# Altium integrated library PDB_V1.IntLib: 41 symbols
Pins are listed as number, name and electrical type; pins without a type are passive.

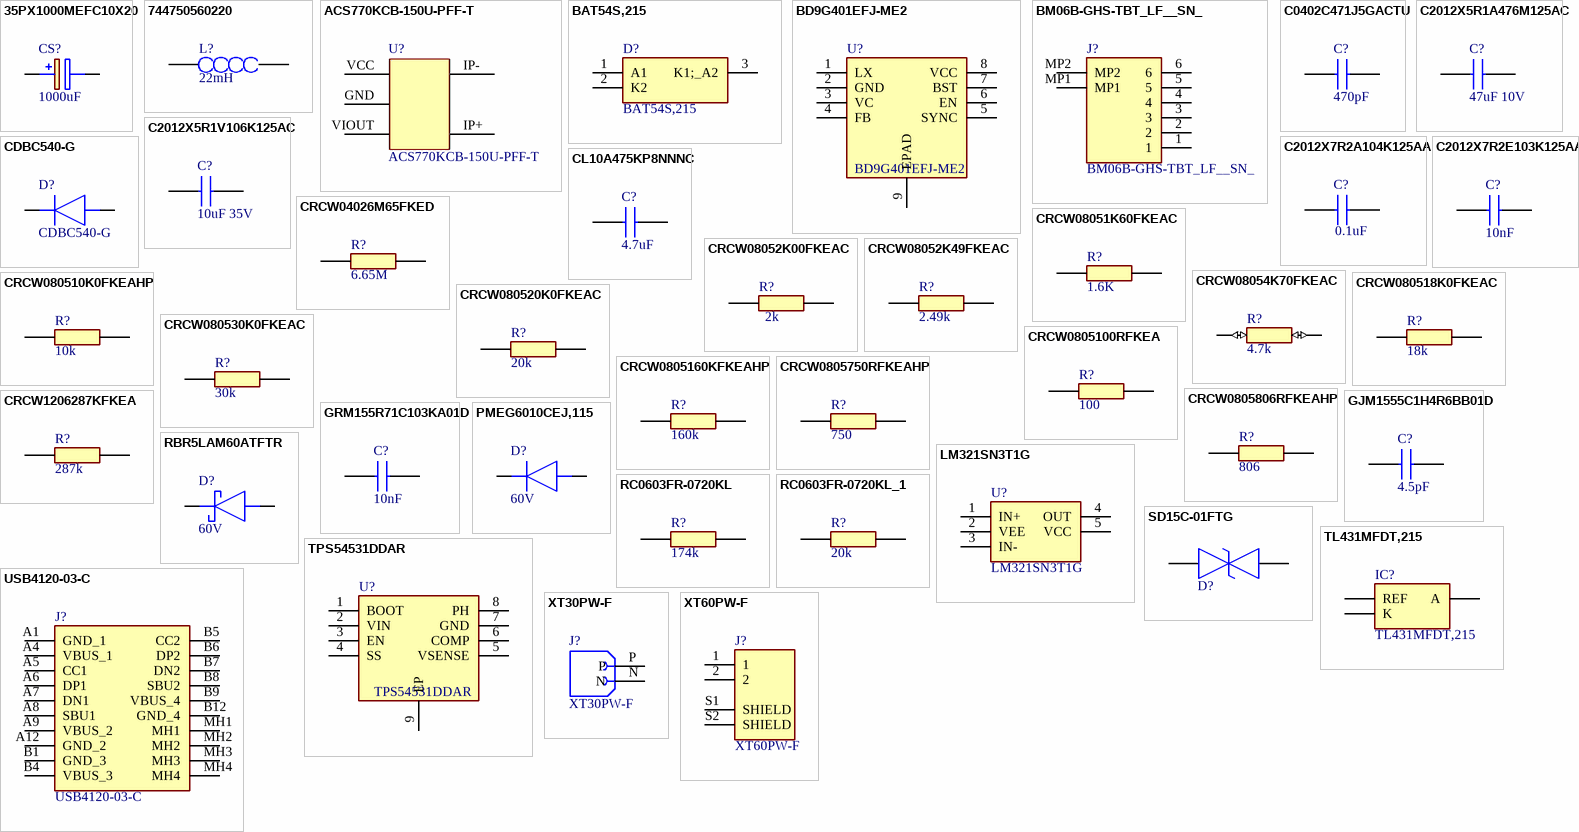
[diagram p0: symbols 35PX1000MEFC10X20 to XT60PW-F]

## 35PX1000MEFC10X20
designator CS?, comment 1000uF
Capacitor Polarised; Manufacturer_Name: Rubycon; Manufacturer_Part_Number: 35PX1000MEFC10X20; Datasheet Link: https://www.rubycon.co.jp/wp-content/uploads/catalog-aluminum/PX.pdf; Height: 21.5mm; Mouser Part Number: 232-35PX1000MEFC10X2; Mouser Price/Stock: https://www.mouser.co.uk/ProductDetail/Rubycon/35PX1000MEFC10X20?qs=T3oQrply3y86%2F1qnNfO%252BAA%3D%3D; Arrow Part Number: 35PX1000MEFC10X20; Arrow Price/Stock: https://www.arrow.com/en/products/35px1000mefc10x20/rubycon?region=nac
footprint CAPPRD500W60D1025H2150
pins: 1 +, 2 -

## 744750560220
designator L?, comment 22mH
Inductor 22mH; Manufacturer_Name: Wurth Elektronik; Manufacturer_Part_Number: 744750560220; Datasheet Link: https://componentsearchengine.com/Datasheets/2/744750560220.pdf; Height: 15.8mm; Mouser Part Number: 710-744750560220; Mouser Price/Stock: https://www.mouser.co.uk/ProductDetail/Wurth-Elektronik/744750560220?qs=HXx4m3XcTe10itAwD7FiZQ%3D%3D; ClassName: PowerModul
footprint 744750560220
pins: 1, 2

## ACS770KCB-150U-PFF-T
designator U?
Integrated Circuit; Manufacturer_Name: Allegro Microsystems; Datasheet Link: https://www.allegromicro.com/-/media/files/datasheets/acs770-datasheet.ashx; Height: 7.1mm; Manufacturer_Part_Number: ACS770KCB-150U-PFF-T; Mouser Part Number: 250-770KCB150UPFFT; Mouser Price/Stock: https://www.mouser.co.uk/ProductDetail/Allegro-MicroSystems/ACS770KCB-150U-PFF-T?qs=pUKx8fyJudAqqwIwIjrr8g%3D%3D; Arrow Part Number: ACS770KCB-150U-PFF-T; Arrow Price/Stock: https://www.arrow.com/en/products/acs770kcb-150u-pff-t/allegro-microsystems?region=nac
footprint ACS772ECB200BPFFT (Footprint not found)
footprint ACS772ECB200BPFFT
pins: GND, IP+, IP-, VCC, VIOUT

## BAT54S,215
designator D?
Schottky Diode; Manufacturer_Name: Nexperia; Datasheet Link: https://assets.nexperia.com/documents/data-sheet/BAT54S.pdf; Height: 1.1mm; Manufacturer_Part_Number: BAT54S,215; Mouser Part Number: 771-BAT54S-T/R; Mouser Price/Stock: https://www.mouser.co.uk/ProductDetail/Nexperia/BAT54S215?qs=me8TqzrmIYVOaf3j7zH0Wg%3D%3D; Arrow Part Number: BAT54S,215; Arrow Price/Stock: https://www.arrow.com/en/products/bat54s215/nexperia?utm_currency=USD&region=europe
footprint SOT95P230X110-3N
pins: 1 A1, 2 K2, 3 K1;_A2

## BD9G401EFJ-ME2
designator U?
Buck converter; Manufacturer_Name: ROHM Semiconductor; Datasheet Link: https://componentsearchengine.com/Datasheets/1/BD9G401EFJ-ME2.pdf; Height: 1mm; Manufacturer_Part_Number: BD9G401EFJ-ME2; Mouser Part Number: 755-BD9G401EFJ-ME2; Mouser Price/Stock: https://www.mouser.co.uk/ProductDetail/ROHM-Semiconductor/BD9G401EFJ-ME2?qs=HXFqYaX1Q2yXryPBxafgDg%3D%3D; ClassName: PowerModul
footprint SOIC127P600X100-9N
pins: 1 LX, 2 GND, 3 VC, 4 FB, 5 SYNC, 6 EN, 7 BST, 8 VCC, 9 EPAD

## BM06B-GHS-TBT_LF__SN_
designator J?
Connector; Manufacturer_Name: JST (JAPAN SOLDERLESS TERMINALS); Manufacturer_Part_Number: BM06B-GHS-TBT(LF)(SN); Datasheet Link: https://datasheet.lcsc.com/szlcsc/2004111131_JST-Sales-America-BM06B-GHS-TBT-LF-SN_C495534.pdf; Height: 4.05mm; Mouser Part Number: 306-BM06BGHSTBTLFSNN; Mouser Price/Stock: https://www.mouser.co.uk/ProductDetail/JST-Commercial/BM06B-GHS-TBTLFSN?qs=cdbOS8ANM9CObKjnhD04mw%3D%3D
footprint BM06BGHSTBTLFSN
pins: 1, 2, 3, 4, 5, 6, MP1, MP2

## C0402C471J5GACTU
designator C?, comment 470pF
Capacitor; Manufacturer_Name: KEMET; Manufacturer_Part_Number: C0402C471J5GACTU; Datasheet Link: https://content.kemet.com/datasheets/KEM_C1002_X7R_SMD.pdf; Height: 0.55mm; Mouser Part Number: 80-C0402C471J5G; Mouser Price/Stock: https://www.mouser.com/Search/Refine.aspx?Keyword=80-C0402C471J5G; Arrow Part Number: C0402C471J5GACTU; Arrow Price/Stock: https://www.arrow.com/en/products/c0402c471j5gactu/kemet-corporation
footprint C0402C104J4RACTU
pins: 1, 2

## C2012X5R1A476M125AC
designator C?, comment 47uF 10V
Capacitor; Manufacturer_Name: TDK; Manufacturer_Part_Number: C2012X5R1A476M125AC; Datasheet Link: https://product.tdk.com/info/en/catalog/datasheets/mlcc_commercial_midvoltage_en.pdf; Height: 1.45mm; Mouser Part Number: 810-C2012X5R1A476M; Mouser Price/Stock: https://www.mouser.co.uk/ProductDetail/TDK/C2012X5R1A476M125AC?qs=LcTL%2F5vFEzGyFw5hxP%2FMXw%3D%3D; Arrow Part Number: C2012X5R1A476M125AC; Arrow Price/Stock: https://www.arrow.com/en/products/c2012x5r1a476m125ac/tdk?region=nac; ClassName: PowerModul
footprint CAPC2012X145N
footprint CAPC2012X145N
pins: 1, 2

## C2012X5R1V106K125AC
designator C?, comment 10uF 35V
Capacitor; Manufacturer_Name: TDK; Manufacturer_Part_Number: C2012X5R1V106K125AC; Datasheet Link: https://product.tdk.com/info/en/catalog/datasheets/mlcc_commercial_midvoltage_en.pdf; Height: 1.45mm; Mouser Part Number: 810-C2012X5R1V106K1C; Mouser Price/Stock: https://www.mouser.co.uk/ProductDetail/TDK/C2012X5R1V106K125AC?qs=6JAMGB%252BEdkwcwonKbQLeCg%3D%3D; Arrow Part Number: C2012X5R1V106K125AC; Arrow Price/Stock: https://www.arrow.com/en/products/c2012x5r1v106k125ac/tdk?region=europe; ClassName: PowerModul
footprint CAPC2012X145N
pins: 1, 2

## C2012X7R2A104K125AA
designator C?, comment 0.1uF
Capacitor; Manufacturer_Name: TDK; Manufacturer_Part_Number: C2012X7R2A104K125AA; Datasheet Link: https://product.tdk.com/info/en/catalog/datasheets/mlcc_commercial_midvoltage_en.pdf; Height: 1.45mm; Mouser Part Number: 810-C2012X7R2A104K; Mouser Price/Stock: https://www.mouser.co.uk/ProductDetail/TDK/C2012X7R2A104K125AA?qs=NRhsANhppD9J0ZsT2%2Fo%2F7Q%3D%3D; Arrow Part Number: C2012X7R2A104K125AA; Arrow Price/Stock: https://www.arrow.com/en/products/c2012x7r2a104k125aa/tdk?region=europe; ClassName: PowerModul
footprint CAPC2012X145N
pins: 1, 2

## C2012X7R2E103K125AA
designator C?, comment 10nF
Capacitor; Manufacturer_Name: TDK; Manufacturer_Part_Number: C2012X7R2E103K125AA; Datasheet Link: https://product.tdk.com/info/en/catalog/datasheets/mlcc_commercial_midvoltage_en.pdf; Height: 1.45mm; Mouser Part Number: 810-C2012X7R2E103K; Mouser Price/Stock: https://www.mouser.co.uk/ProductDetail/TDK/C2012X7R2E103K125AA?qs=NRhsANhppD%2FvPjIeAxskbg%3D%3D; Arrow Part Number: C2012X7R2E103K125AA; Arrow Price/Stock: https://www.arrow.com/en/products/c2012x7r2e103k125aa/tdk?region=nac; ClassName: PowerModul
footprint CAPC2012X145N
pins: 1, 2

## CDBC540-G
designator D?
Diode; Manufacturer_Name: Comchip Technology; Datasheet Link: https://eu.mouser.com/datasheet/2/80/CDBC520-HF_Thru195340._CDBC5100-HF_RevB-1480991.pdf; Height: 2.9mm; Manufacturer_Part_Number: CDBC540-G; Mouser Part Number: 750-CDBC540-G; Mouser Price/Stock: https://www.mouser.co.uk/ProductDetail/Comchip-Technology/CDBC540-G?qs=tw%252BuQ%2FB6PO2ExpPYY64Vzw%3D%3D; Arrow Part Number: CDBC540-G; Arrow Price/Stock: https://www.arrow.com/en/products/cdbc540-g/comchip-technology?utm_currency=USD&region=nac
footprint DIOM8059X290N
pins: 1 K, 2 A

## CL10A475KP8NNNC
designator C?, comment 4.7uF
Capacitor; Manufacturer_Name: SAMSUNG; Manufacturer_Part_Number: CL10A475KP8NNNC; Datasheet Link: https://www.arrow.com/en/products/cl10a475kp8nnnc/samsung-electro-mechanics; Height: 0.9mm; Mouser Part Number: 187-CL10A475KP8NNNC; Mouser Price/Stock: https://www.mouser.co.uk/ProductDetail/Samsung-Electro-Mechanics/CL10A475KP8NNNC?qs=hqM3L16%252BxlfQRmkWsZz5vA%3D%3D; Arrow Part Number: CL10A475KP8NNNC; Arrow Price/Stock: https://www.arrow.com/en/products/cl10a475kp8nnnc/samsung-electro-mechanics?region=nac
footprint CAPC1608X90N
pins: 1, 2

## CRCW04026M65FKED
designator R?, comment 6.65M
Resistor; Manufacturer_Name: Vishay; Manufacturer_Part_Number: CRCW04026M65FKED; Datasheet Link: http://www.vishay.com/docs/20035/dcrcwe3.pdf; Height: 0.4mm
footprint RESC1005X40N
pins: 1, 2

## CRCW08051K60FKEAC
designator R?, comment 1.6K
Resistor; Manufacturer_Name: Vishay; Manufacturer_Part_Number: CRCW08051K60FKEAC; Datasheet Link: https://www.arrow.com/en/products/crcw08051k60fkeac/vishay; Height: 0.6mm; Mouser Part Number: 71-CRCW08051K60FKEAC; Mouser Price/Stock: https://www.mouser.co.uk/ProductDetail/Vishay-Dale/CRCW08051K60FKEAC?qs=E3Y5ESvWgWMJaZYHQus8LQ%3D%3D; Arrow Part Number: CRCW08051K60FKEAC; Arrow Price/Stock: https://www.arrow.com/en/products/crcw08051k60fkeac/vishay
footprint RESC2012X60N
pins: 1, 2

## CRCW08052K00FKEAC
designator R?, comment 2k
Resistor; Manufacturer_Name: Vishay; Manufacturer_Part_Number: CRCW08052K00FKEAC; Datasheet Link: http://www.vishay.com/docs/28773/crcwce3.pdf; Height: 0.6mm; Mouser Part Number: 71-CRCW08052K00FKEAC; Mouser Price/Stock: https://www.mouser.co.uk/ProductDetail/Vishay-Dale/CRCW08052K00FKEAC?qs=E3Y5ESvWgWP6floxGsbShA%3D%3D; Arrow Part Number: CRCW08052K00FKEAC; Arrow Price/Stock: https://www.arrow.com/en/products/crcw08052k00fkeac/vishay?utm_currency=USD&region=nac
footprint RESC2012X60N
pins: 1, 2

## CRCW08052K49FKEAC
designator R?, comment 2.49k
Resistor; Manufacturer_Name: Vishay; Manufacturer_Part_Number: CRCW08052K49FKEAC; Datasheet Link: https://componentsearchengine.com/Datasheets/1/CRCW08052K49FKEAC.pdf; Height: 0.5mm; Mouser Part Number: 71-CRCW08052K49FKEAC; Mouser Price/Stock: https://www.mouser.com/Search/Refine.aspx?Keyword=71-CRCW08052K49FKEAC; Arrow Part Number: CRCW08052K49FKEAC; Arrow Price/Stock: https://www.arrow.com/en/products/crcw08052k49fkeac/vishay
footprint RESC2012X50N
pins: 1, 2

## CRCW08054K70FKEAC
designator R?, comment 4.7k
Resistor; Manufacturer_Name: Vishay; Manufacturer_Part_Number: CRCW08054K70FKEAC; Datasheet Link: https://mouser.componentsearchengine.com/Datasheets/1/CRCW08054K70FKEAC.pdf; Height: 0.6mm; Mouser Part Number: 71-CRCW08054K70FKEAC; Mouser Price/Stock: https://www.mouser.co.uk/ProductDetail/Vishay-Dale/CRCW08054K70FKEAC?qs=E3Y5ESvWgWOQAAVugewEHA%3D%3D; Arrow Part Number: CRCW08054K70FKEAC; Arrow Price/Stock: https://www.arrow.com/en/products/crcw08054k70fkeac/vishay?region=nac; ClassName: PowerModul
footprint RESC2012X60N
pins: 1 (io), 2 (io)

## CRCW080510K0FKEAHP
designator R?, comment 10k
Resistor; Manufacturer_Name: Vishay; Manufacturer_Part_Number: CRCW080510K0FKEAHP; Datasheet Link: https://componentsearchengine.com/Datasheets/1/CRCW08051R00FKEAHP.pdf; Height: 0.6mm; Mouser Part Number: 71-CRCW080510K0FKEAH; Mouser Price/Stock: https://www.mouser.co.uk/ProductDetail/Vishay-Dale/CRCW080510K0FKEAHP?qs=FlFvgi4rxBybVOW6oiRQjA%3D%3D; Arrow Part Number: CRCW080510K0FKEAHP; Arrow Price/Stock: https://www.arrow.com/en/products/crcw080510k0fkeahp/vishay?utm_currency=USD&region=europe; ClassName: PowerModul
footprint RESC2012X60N
pins: 1, 2

## CRCW080518K0FKEAC
designator R?, comment 18k
Resistor; Manufacturer_Name: Vishay; Manufacturer_Part_Number: CRCW080518K0FKEAC; Datasheet Link: https://www.arrow.com/en/products/crcw080518k0fkeac/vishay?region=nac; Height: 0.5mm; Mouser Part Number: 71-CRCW080518K0FKEAC; Mouser Price/Stock: https://www.mouser.co.uk/ProductDetail/Vishay-Dale/CRCW080518K0FKEAC?qs=E3Y5ESvWgWPSwNx6fNHotQ%3D%3D; Arrow Part Number: CRCW080518K0FKEAC; Arrow Price/Stock: https://www.arrow.com/en/products/crcw080518k0fkeac/vishay?region=nac
footprint RESC2012X50N
pins: 1, 2

## CRCW080520K0FKEAC
designator R?, comment 20k
Resistor; Manufacturer_Name: Vishay; Manufacturer_Part_Number: CRCW080520K0FKEAC; Datasheet Link: https://mouser.componentsearchengine.com/Datasheets/1/CRCW080520K0FKEAC.pdf; Height: 0.6mm; Mouser Part Number: 71-CRCW080520K0FKEAC; Mouser Price/Stock: https://www.mouser.co.uk/ProductDetail/Vishay-Dale/CRCW080520K0FKEAC?qs=E3Y5ESvWgWNXVYIsIc630g%3D%3D; Arrow Part Number: CRCW080520K0FKEAC; Arrow Price/Stock: https://www.arrow.com/en/products/crcw080520k0fkeac/vishay
footprint RESC2012X60N
pins: 1, 2

## CRCW080530K0FKEAC
designator R?, comment 30k
Resistor; Manufacturer_Name: Vishay; Manufacturer_Part_Number: CRCW080530K0FKEAC; Datasheet Link: https://mouser.componentsearchengine.com/Datasheets/1/CRCW080530K0FKEAC.pdf; Height: 0.6mm; Mouser Part Number: 71-CRCW080530K0FKEAC; Mouser Price/Stock: https://www.mouser.co.uk/ProductDetail/Vishay-Dale/CRCW080530K0FKEAC?qs=E3Y5ESvWgWMYq9MgiyaMow%3D%3D; Arrow Part Number: CRCW080530K0FKEAC; Arrow Price/Stock: https://www.arrow.com/en/products/crcw080530k0fkeac/vishay?region=nac; ClassName: PowerModul
footprint RESC2012X60N
pins: 1, 2

## CRCW0805100RFKEA
designator R?, comment 100
Resistor; Manufacturer_Name: Vishay; Manufacturer_Part_Number: CRCW0805100RFKEA; Datasheet Link: http://www.vishay.com/docs/20035/dcrcwe3.pdf; Height: 0.5mm; Mouser Part Number: 71-CRCW0805-100-E3; Mouser Price/Stock: https://www.mouser.co.uk/ProductDetail/Vishay-Dale/CRCW0805100RFKEA?qs=LOX6nxTstiYDPDKmuLyNLw%3D%3D; Arrow Part Number: CRCW0805100RFKEA; Arrow Price/Stock: https://www.arrow.com/en/products/crcw0805100rfkea/vishay?utm_currency=USD&region=nac
footprint RESC2012X50N
pins: 1, 2

## CRCW0805160KFKEAHP
designator R?, comment 160k
Resistor; Manufacturer_Name: Vishay; Manufacturer_Part_Number: CRCW0805160KFKEAHP; Datasheet Link: https://componentsearchengine.com/Datasheets/1/CRCW08051R00FKEAHP.pdf; Height: 0.6mm; ClassName: PowerModul
footprint RESC2012X60N
pins: 1, 2

## CRCW0805750RFKEAHP
designator R?, comment 750
Resistor; Manufacturer_Name: Vishay; Manufacturer_Part_Number: CRCW0805750RFKEAHP; Datasheet Link: https://componentsearchengine.com/Datasheets/1/CRCW08051R00FKEAHP.pdf; Height: 0.6mm; Mouser Part Number: 71-CRCW0805750RFKEAH; Mouser Price/Stock: https://www.mouser.co.uk/ProductDetail/Vishay-Dale/CRCW0805750RFKEAHP?qs=40TFAHZMFvdp5ouInDDfaw%3D%3D; Arrow Part Number: CRCW0805750RFKEAHP; Arrow Price/Stock: https://www.arrow.com/en/products/crcw0805750rfkeahp/vishay?region=nac
footprint RESC2012X60N
pins: 1, 2

## CRCW0805806RFKEAHP
designator R?, comment 806
Resistor; Manufacturer_Name: Vishay; Manufacturer_Part_Number: CRCW0805806RFKEAHP; Datasheet Link: https://componentsearchengine.com/Datasheets/1/CRCW08051R00FKEAHP.pdf; Height: 0.6mm
footprint RESC2012X60N
pins: 1, 2

## CRCW1206287KFKEA
designator R?, comment 287k
Resistor; Manufacturer_Name: Vishay; Manufacturer_Part_Number: CRCW1206287KFKEA; Height: 0.6mm; Mouser Part Number: 71-CRCW1206-287K-E3; Mouser Price/Stock: https://www.mouser.com/Search/Refine.aspx?Keyword=71-CRCW1206-287K-E3
footprint RESC3216X60N
pins: 1, 2

## GJM1555C1H4R6BB01D
designator C?, comment 4.5pF
Capacitor; Manufacturer_Name: Murata Electronics; Manufacturer_Part_Number: GJM1555C1H4R6BB01D; Datasheet Link: https://search.murata.co.jp/Ceramy/image/img/A01X/G101/ENG/GJM1555C1H4R6BB01-01A.pdf; Height: 0.55mm
footprint CAPC1005X55N
pins: 1, 2

## GRM155R71C103KA01D
designator C?, comment 10nF
Capacitor; Manufacturer_Name: Murata Electronics; Manufacturer_Part_Number: GRM155R71C103KA01D; Datasheet Link: https://search.murata.co.jp/Ceramy/image/img/A01X/G101/ENG/GRM155R71C103KA01-01A.pdf; Height: 0.7mm; Mouser Part Number: 81-GRM36X103K16; Mouser Price/Stock: https://www.mouser.co.uk/ProductDetail/Murata-Electronics/GRM155R71C103KA01D?qs=8YPuuxuUzMI%252B9QLnzeLwhQ%3D%3D; Arrow Part Number: GRM155R71C103KA01D; Arrow Price/Stock: https://www.arrow.com/en/products/grm155r71c103ka01d/murata-manufacturing?utm_currency=USD&region=nac
footprint CAPC1005X70N
pins: 1, 2

## LM321SN3T1G
designator U?
Integrated Circuit; Manufacturer_Name: onsemi; Datasheet Link: https://www.onsemi.com/pub/Collateral/LM321-D.PDF; Height: 1.1mm; Manufacturer_Part_Number: LM321SN3T1G; Mouser Part Number: 863-LM321SN3T1G; Mouser Price/Stock: https://www.mouser.co.uk/ProductDetail/onsemi/LM321SN3T1G?qs=slMPpRTKD5qNVsCzBsHVZA%3D%3D; Arrow Part Number: LM321SN3T1G; Arrow Price/Stock: https://www.arrow.com/en/products/lm321sn3t1g/on-semiconductor?utm_currency=USD&region=nac
footprint SOT95P275X110-5N (Footprint not found)
pins: 1 IN+, 2 VEE, 3 IN-, 4 OUT, 5 VCC

## PMEG6010CEJ,115
designator D?, comment 60V
Diode; Manufacturer_Name: Nexperia; Manufacturer_Part_Number: PMEG6010CEJ,115; Datasheet Link: https://assets.nexperia.com/documents/data-sheet/PMEG6010CEH_PMEG6010CEJ.pdf; Height: 0.8mm; Mouser Part Number: 771-PMEG6010CEJ-T/R; Mouser Price/Stock: https://www.mouser.co.uk/ProductDetail/Nexperia/PMEG6010CEJ115?qs=LOCUfHb8d9sJWWkUvN790w%3D%3D; Arrow Part Number: PMEG6010CEJ,115; Arrow Price/Stock: https://www.arrow.com/en/products/pmeg6010cej115/nexperia?region=nac
footprint SODFL2512X80N
pins: 1 K, 2 A

## RBR5LAM60ATFTR
designator D?, comment 60V
Schottky Diode; Manufacturer_Name: ROHM Semiconductor; Manufacturer_Part_Number: RBR5LAM60ATFTR; Datasheet Link: https://fscdn.rohm.com/en/products/databook/datasheet/discrete/diode/schottky_barrier/rbr5lam60atftr-e.pdf; Height: 1.05mm; Mouser Part Number: 755-RBR5LAM60ATFTR; Mouser Price/Stock: https://www.mouser.co.uk/ProductDetail/ROHM-Semiconductor/RBR5LAM60ATFTR?qs=4v%252BiZTmLVHGKJkO8tMW4zA%3D%3D; ClassName: PowerModul
footprint SODFL4725X105N
pins: 1 K, 2 A

## RC0603FR-0720KL
designator R?, comment 174k
Resistor; Manufacturer_Name: KEMET; Manufacturer_Part_Number: RC0603FR-0720KL; Datasheet Link: http://www.yageo.com/documents/recent/PYu-RC0603_51_RoHS_L_v5.pdf; Height: 0.55mm; Mouser Part Number: 603-RC0603FR-0720KL; Mouser Price/Stock: https://www.mouser.co.uk/ProductDetail/YAGEO/RC0603FR-0720KL?qs=VU8sRB4EgwCsxfrjtEIKPQ%3D%3D; Arrow Part Number: RC0603FR-0720KL; Arrow Price/Stock: https://www.arrow.com/en/products/rc0603fr-0720kl/yageo
footprint RESC1608X55N
pins: 1, 2

## RC0603FR-0720KL_1
designator R?, comment 20k
Resistor; Manufacturer_Name: KEMET; Manufacturer_Part_Number: RC0603FR-0720KL; Datasheet Link: http://www.yageo.com/documents/recent/PYu-RC0603_51_RoHS_L_v5.pdf; Height: 0.55mm; Mouser Part Number: 603-RC0603FR-0720KL; Mouser Price/Stock: https://www.mouser.co.uk/ProductDetail/YAGEO/RC0603FR-0720KL?qs=VU8sRB4EgwCsxfrjtEIKPQ%3D%3D; Arrow Part Number: RC0603FR-0720KL; Arrow Price/Stock: https://www.arrow.com/en/products/rc0603fr-0720kl/yageo
footprint RESC1608X55N
pins: 1, 2

## SD15C-01FTG
designator D?  (value not drawn)
TVS Diode (Bi-directional); Manufacturer_Name: LITTELFUSE; Datasheet Link: https://www.arrow.com/en/products/sd15c-01ftg/littelfuse; Height: 1.14mm; Manufacturer_Part_Number: SD15C-01FTG; Mouser Part Number: 576-SD15C-01FTG; Mouser Price/Stock: https://www.mouser.co.uk/ProductDetail/Littelfuse/SD15C-01FTG?qs=4zl93aaztU8pjSvpxpJP6g%3D%3D; Arrow Part Number: SD15C-01FTG; Arrow Price/Stock: https://www.arrow.com/en/products/sd15c-01ftg/littelfuse?region=nac
footprint SD15C01FTG
pins: 1, 2

## TL431MFDT,215
designator IC?
Integrated Circuit; Manufacturer_Name: Nexperia; Datasheet Link: https://assets.nexperia.com/documents/data-sheet/TL431_FAM.pdf; Height: 1.1mm; Manufacturer_Part_Number: TL431MFDT,215; Mouser Part Number: 771-TL431MFDT215; Mouser Price/Stock: https://www.mouser.co.uk/ProductDetail/Nexperia/TL431MFDT215?qs=A1cBxND5mHKvFzVl3lBdcQ%3D%3D; Arrow Part Number: TL431MFDT,215; Arrow Price/Stock: https://www.arrow.com/en/products/tl431mfdt215/nexperia?utm_currency=USD&region=nac
footprint SOT95P230X110-3N
pins: 1 REF, 2 K, 3 A

## TPS54531DDAR
designator U?
Power Supply; Manufacturer_Name: Texas Instruments; Datasheet Link: http://www.ti.com/lit/gpn/tps54531; Height: 1.7mm; Manufacturer_Part_Number: TPS54531DDAR; Mouser Part Number: 595-TPS54531DDAR; Mouser Price/Stock: https://www.mouser.co.uk/ProductDetail/Texas-Instruments/TPS54531DDAR?qs=jA5Ki6243onykODzUePbag%3D%3D; Arrow Part Number: TPS54531DDAR; Arrow Price/Stock: https://www.arrow.com/en/products/tps54531ddar/texas-instruments?utm_currency=USD&region=nac
footprint SOIC127P600X175-8N
pins: 1 BOOT, 2 VIN, 3 EN, 4 SS, 5 VSENSE, 6 COMP, 7 GND, 8 PH, 9 EP

## USB4120-03-C
designator J?
Connector; Manufacturer_Name: GCT (GLOBAL CONNECTOR TECHNOLOGY); Datasheet Link: https://gct.co/connector/usb4120; Height: 6.75mm; Manufacturer_Part_Number: USB4120-03-C; Mouser Part Number: 640-USB4120-03-C; Mouser Price/Stock: https://www.mouser.co.uk/ProductDetail/GCT/USB4120-03-C?qs=KUoIvG%2F9IlZaAd13sVDhkQ%3D%3D
footprint USB412003C
pins: A1 GND_1, A4 VBUS_1, A5 CC1, A6 DP1, A7 DN1, A8 SBU1, A9 VBUS_2, A12 GND_2, B1 GND_3, B4 VBUS_3, B5 CC2, B6 DP2, B7 DN2, B8 SBU2, B9 VBUS_4, B12 GND_4, MH1, MH2, MH3, MH4

## XT30PW-F
designator J?
Socket; DC supply; XT30; female; PIN: 2; on PCBs; THT; yellow; 15A; MF: amass; SnapEDA_Link: https://www.snapeda.com/parts/XT30PW-F/AMASS/view-part/?ref=snap; Package: None; Value: *; MP: XT30PW-F; Check_prices: https://www.snapeda.com/parts/XT30PW-F/AMASS/view-part/?ref=eda
footprint AMASS_XT30PW-F
pins: N (power), P (power)

## XT60PW-F
designator J?
Socket DC Supply Connector Female; MF: AMASS; SnapEDA_Link: https://www.snapeda.com/parts/XT60PW-F/AMASS/view-part/?ref=snap; Package: Package; Availability: Not in stock; Price: None; Check_prices: https://www.snapeda.com/parts/XT60PW-F/AMASS/view-part/?ref=eda; MP: XT60PW-F; Value: *
footprint AMASS_XT60PW-F
pins: 1, 2, S1 SHIELD, S2 SHIELD

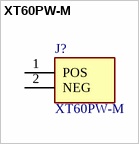
[diagram p1: symbol XT60PW-M]

## XT60PW-M
designator J?
Socket, DC supply, male, PIN: 2; MF: AMASS; Check_prices: https://www.snapeda.com/parts/XT60PW-M/AMASS/view-part/?ref=eda; SnapEDA_Link: https://www.snapeda.com/parts/XT60PW-M/AMASS/view-part/?ref=snap; Price: None; Availability: Not in stock; Package: Package; MP: XT60PW-M; Value: *
footprint AMASS_XT60PW-M
pins: 1 POS, 2 NEG